# Altium schematic symbol library Seeed-OPL-Diode.SCHLIB: 94 symbols
Pins are listed as number, name and electrical type; pins without a type are passive.

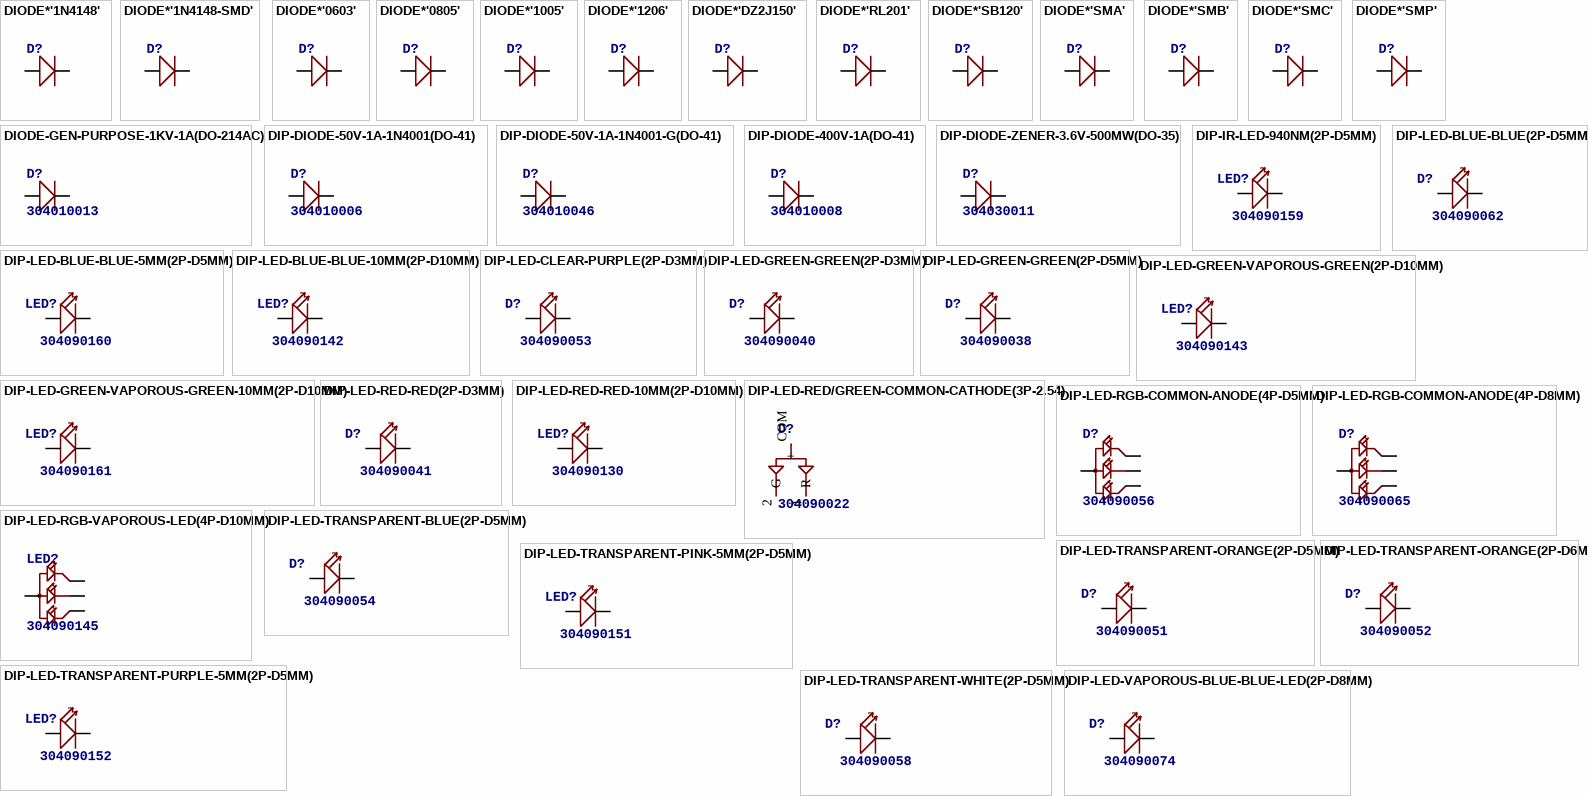
[diagram p0: symbols DIODE*'1N4148' to DIP-LED-VAPOROUS-BLUE-BLUE-LED(2P-D8MM)]

## DIODE*'1N4148'
designator D?
footprint DO-35
pins: A +, C -

## DIODE*'1N4148-SMD'
designator D?
footprint LL-34
pins: A +, C -

## DIODE*'0603'
designator D?
footprint SOD-523
pins: +, -

## DIODE*'0805'
designator D?
footprint SOD-323
pins: +, -

## DIODE*'1005'
designator D?
footprint D1005
pins: +, -

## DIODE*'1206'
designator D?
footprint SOD-123
pins: +, -

## DIODE*'DZ2J150'
designator D?
footprint SMINI2-F5-B
pins: +, -

## DIODE*'RL201'
designator D?
footprint DO-15
pins: +, -

## DIODE*'SB120'
designator D?
footprint DO-41
pins: 1 +, 2 -

## DIODE*'SMA'
designator D?
footprint DO-214AC
pins: 1 +, 2 -

## DIODE*'SMB'
designator D?
footprint DO-214AA
pins: +, -

## DIODE*'SMC'
designator D?
footprint DO-214AB
pins: 1 +, 2 -

## DIODE*'SMP'
designator D?
footprint DO-220AA
pins: +, -

## DIODE-GEN-PURPOSE-1KV-1A(DO-214AC)
designator D?, comment 304010013
MPN: 1N4007
footprint DO-214AC
pins: 1 +, 2 -

## DIP-DIODE-50V-1A-1N4001(DO-41)
designator D?, comment 304010006
MPN: 1N4001
footprint DO-41
pins: 1 +, 2 -

## DIP-DIODE-50V-1A-1N4001-G(DO-41)
designator D?, comment 304010046
MPN: 1N4001-G
footprint DO-41
pins: 1 +, 2 -

## DIP-DIODE-400V-1A(DO-41)
designator D?, comment 304010008
MPN: 1N4004
footprint DO-41
pins: 1 +, 2 -

## DIP-DIODE-ZENER-3.6V-500MW(DO-35)
designator D?, comment 304030011
MPN: 1N5227B
footprint DO-35
pins: A +, C -

## DIP-IR-LED-940NM(2P-D5MM)
designator LED?, comment 304090159
MPN: IR523B-W60W1
footprint LED2-2.54-D5.0MM
pins: +, -

## DIP-LED-BLUE-BLUE(2P-D5MM)
designator D?, comment 304090062
MPN: 504BW
footprint LED2-2.54-D5.0MM
pins: +, -

## DIP-LED-BLUE-BLUE-5MM(2P-D5MM)
designator LED?, comment 304090160
MPN: BH504DC
footprint LED2-2.54-D5.0MM
pins: +, -

## DIP-LED-BLUE-BLUE-10MM(2P-D10MM)
designator LED?, comment 304090142
MPN: BH1004DC
footprint LED2-2.54-D10MM
pins: +, -

## DIP-LED-CLEAR-PURPLE(2P-D3MM)
designator D?, comment 304090053
MPN: 30SVC4A
footprint LED2-2.54-D3.0MM
pins: A +, K -

## DIP-LED-GREEN-GREEN(2P-D3MM)
designator D?, comment 304090040
MPN: CX-G302DC
footprint LED2-2.54-D3.0MM
pins: A +, K -

## DIP-LED-GREEN-GREEN(2P-D5MM)
designator D?, comment 304090038
MPN: G502DC
footprint LED2-2.54-D5.0MM
pins: +, -

## DIP-LED-GREEN-VAPOROUS-GREEN(2P-D10MM)
designator LED?, comment 304090143
MPN: G1004DCMM
footprint LED2-2.54-D10MM
pins: +, -

## DIP-LED-GREEN-VAPOROUS-GREEN-10MM(2P-D10MM)
designator LED?, comment 304090161
MPN: G1004DC
footprint LED2-2.54-D10MM
pins: +, -

## DIP-LED-RED-RED(2P-D3MM)
designator D?, comment 304090041
MPN: SR302DC
footprint LED2-2.54-D3.0MM
pins: A +, K -

## DIP-LED-RED-RED-10MM(2P-D10MM)
designator LED?, comment 304090130
MPN: SR1004DC
footprint LED2-2.54-D10MM
pins: +, -

## DIP-LED-RED/GREEN-COMMON-CATHODE(3P-2.54)
designator D?, comment 304090022
MPN: RG309WK-A
footprint LED3-2.54-D3.0MM
pins: 1 R, 2 G, COM +

## DIP-LED-RGB-COMMON-ANODE(4P-D5MM)
designator D?, comment 304090056
MPN: FZR50RGB00T-C
footprint LED4-1.3-D5.0MM
pins: B, C +, G, R

## DIP-LED-RGB-COMMON-ANODE(4P-D8MM)
designator D?, comment 304090065
MPN: CZXR-80RGB03-A
footprint LED4-2.0-D8.0MM
pins: 1 R, 2 +, 3 G, 4 B

## DIP-LED-RGB-VAPOROUS-LED(4P-D10MM)
designator LED?, comment 304090145
MPN: YJ1003RGB-30B
footprint LED4-1.3-D10MM
pins: B, C +, G, R

## DIP-LED-TRANSPARENT-BLUE(2P-D5MM)
designator D?, comment 304090054
MPN: 504BC
footprint LED2-2.54-D5.0MM
pins: +, -

## DIP-LED-TRANSPARENT-ORANGE(2P-D5MM)
designator D?, comment 304090051
MPN: UO504WC
footprint LED2-2.54-D5.0MM
pins: +, -

## DIP-LED-TRANSPARENT-ORANGE(2P-D6MM)
designator D?, comment 304090052
MPN: 503UOC
footprint LED2-2.54-6MM
pins: +, -

## DIP-LED-TRANSPARENT-PINK-5MM(2P-D5MM)
designator LED?, comment 304090151
MPN: 504PIC
footprint LED2-2.54-D5.0MM
pins: +, -

## DIP-LED-TRANSPARENT-PURPLE-5MM(2P-D5MM)
designator LED?, comment 304090152
MPN: 504PUC
footprint LED2-2.54-D5.0MM
pins: +, -

## DIP-LED-TRANSPARENT-WHITE(2P-D5MM)
designator D?, comment 304090058
MPN: 504WC
footprint LED2-2.54-D5.0MM
pins: +, -

## DIP-LED-VAPOROUS-BLUE-BLUE-LED(2P-D8MM)
designator D?, comment 304090074
MPN: BH8004DC
footprint LED2-2.54-D8.0MM
pins: +, -

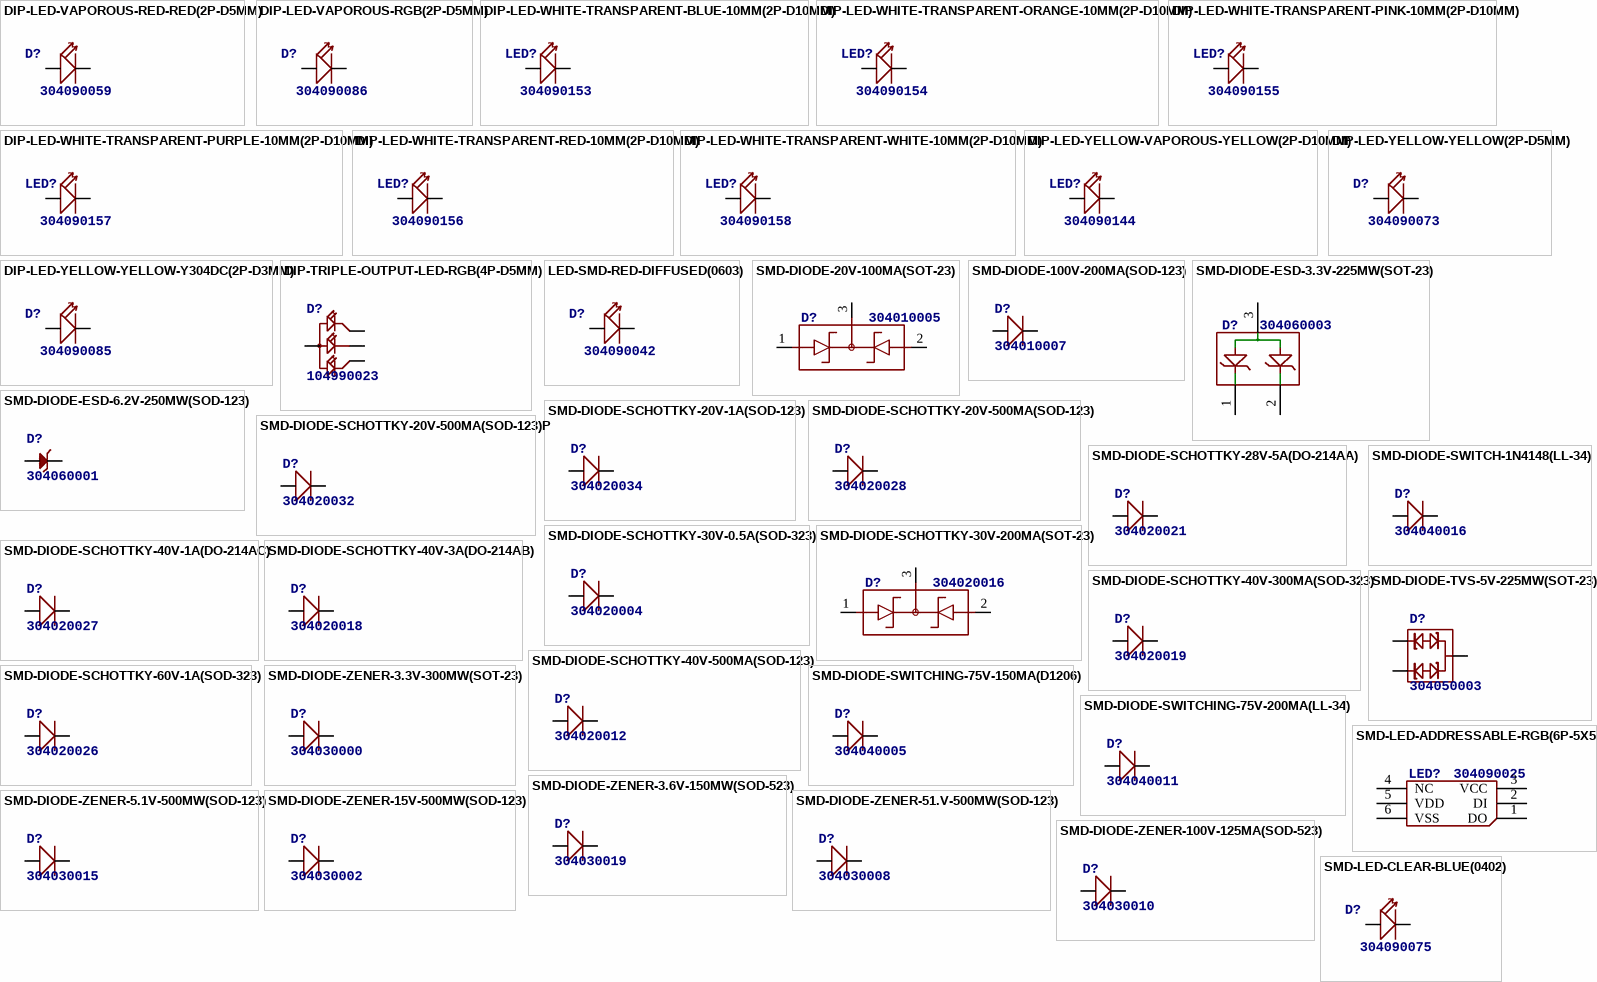
[diagram p1: symbols DIP-LED-VAPOROUS-RED-RED(2P-D5MM) to SMD-LED-CLEAR-BLUE(0402)]

## DIP-LED-VAPOROUS-RED-RED(2P-D5MM)
designator D?, comment 304090059
MPN: UR502DC
footprint LED2-2.54-D5.0MM
pins: ?1 +, ?2 -

## DIP-LED-VAPOROUS-RGB(2P-D5MM)
designator D?, comment 304090086
MPN: 504RGBW-K
footprint LED2-2.54-D5.0MM
pins: +, -

## DIP-LED-WHITE-TRANSPARENT-BLUE-10MM(2P-D10MM)
designator LED?, comment 304090153
MPN: 1004BW
footprint LED2-2.54-D10MM
pins: +, -

## DIP-LED-WHITE-TRANSPARENT-ORANGE-10MM(2P-D10MM)
designator LED?, comment 304090154
MPN: 1004OUW
footprint LED2-2.54-D10MM
pins: +, -

## DIP-LED-WHITE-TRANSPARENT-PINK-10MM(2P-D10MM)
designator LED?, comment 304090155
MPN: 1004PIW
footprint LED2-2.54-D10MM
pins: +, -

## DIP-LED-WHITE-TRANSPARENT-PURPLE-10MM(2P-D10MM)
designator LED?, comment 304090157
MPN: 1004PUW
footprint LED2-2.54-D10MM
pins: +, -

## DIP-LED-WHITE-TRANSPARENT-RED-10MM(2P-D10MM)
designator LED?, comment 304090156
MPN: 1004RW
footprint LED2-2.54-D10MM
pins: +, -

## DIP-LED-WHITE-TRANSPARENT-WHITE-10MM(2P-D10MM)
designator LED?, comment 304090158
MPN: 1004WW
footprint LED2-2.54-D10MM
pins: +, -

## DIP-LED-YELLOW-VAPOROUS-YELLOW(2P-D10MM)
designator LED?, comment 304090144
MPN: Y1004DC
footprint LED2-2.54-D10MM
pins: +, -

## DIP-LED-YELLOW-YELLOW(2P-D5MM)
designator D?, comment 304090073
MPN: Y502DC
footprint LED2-2.54-D5.0MM
pins: ?1 +, ?2 -

## DIP-LED-YELLOW-YELLOW-Y304DC(2P-D3MM)
designator D?, comment 304090085
MPN: Y304DC
footprint LED2-2.54-D3.0MM
pins: A +, K -

## DIP-TRIPLE-OUTPUT-LED-RGB(4P-D5MM)
designator D?, comment 104990023
footprint LED4-1.3-D5.0MM
pins: B, C +, G, R

## LED-SMD-RED-DIFFUSED(0603)
designator D?, comment 304090042
MPN: 19-217-R6C-AL1M2VY-3T
footprint LED-0603
pins: +, -

## SMD-DIODE-20V-100MA(SOT-23)
designator D?, comment 304010005
MPN: SMP1330-005LF
footprint SOT-23
pins: 1, 2, 3

## SMD-DIODE-100V-200MA(SOD-123)
designator D?, comment 304010007
MPN: MMSD4148
footprint SOD-123
pins: +, -

## SMD-DIODE-ESD-3.3V-225MW(SOT-23)
designator D?, comment 304060003
MPN: CESD3V3AP
footprint SOT-23
pins: 1, 2, 3

## SMD-DIODE-ESD-6.2V-250MW(SOD-123)
designator D?, comment 304060001
MPN: CESD5V0D1
footprint SOD-123
pins: + 1, - 2

## SMD-DIODE-SCHOTTKY-20V-1A(SOD-123)
designator D?, comment 304020034
MPN: B5819W
footprint SOD-123
pins: +, -

## SMD-DIODE-SCHOTTKY-20V-500MA(SOD-123)
designator D?, comment 304020028
MPN: MBR0520LT1G
footprint SOD-123
pins: +, -

## SMD-DIODE-SCHOTTKY-20V-500MA(SOD-123)P
designator D?, comment 304020032
MPN: SS0520-7-F
footprint SOD-123
pins: +, -

## SMD-DIODE-SCHOTTKY-28V-5A(DO-214AA)
designator D?, comment 304020021
MPN: SS54B
footprint DO-214AA
pins: +, -

## SMD-DIODE-SCHOTTKY-30V-0.5A(SOD-323)
designator D?, comment 304020004
MPN: LRB551V-30T1G
footprint SOD-323
pins: +, -

## SMD-DIODE-SCHOTTKY-30V-200MA(SOT-23)
designator D?, comment 304020016
MPN: BAT54C-215
footprint SOT-23
pins: 1, 2, 3

## SMD-DIODE-SCHOTTKY-40V-1A(DO-214AC)
designator D?, comment 304020027
MPN: 1N5819
footprint DO-214AC
pins: 1 +, 2 -

## SMD-DIODE-SCHOTTKY-40V-3A(DO-214AB)
designator D?, comment 304020018
MPN: SS34-E3/57T
footprint DO-214AB
pins: 1 +, 2 -

## SMD-DIODE-SCHOTTKY-40V-300MA(SOD-323)
designator D?, comment 304020019
MPN: BAT54JFILM
footprint SOD-323
pins: +, -

## SMD-DIODE-SCHOTTKY-40V-500MA(SOD-123)
designator D?, comment 304020012
MPN: B0540W
footprint SOD-123
pins: +, -

## SMD-DIODE-SCHOTTKY-60V-1A(SOD-323)
designator D?, comment 304020026
MPN: PMEG6010CEJ,115
footprint SOD-323
pins: +, -

## SMD-DIODE-SWITCH-1N4148(LL-34)
designator D?, comment 304040016
MPN: 1N4148
footprint LL-34
pins: A +, C -

## SMD-DIODE-SWITCHING-75V-150MA(D1206)
designator D?, comment 304040005
MPN: CD1206-S01575
footprint LED-1206
pins: +, -

## SMD-DIODE-SWITCHING-75V-200MA(LL-34)
designator D?, comment 304040011
MPN: LL4148ST
footprint LL-34
pins: A +, C -

## SMD-DIODE-TVS-5V-225MW(SOT-23)
designator D?, comment 304050003
MPN: CESD5V0AP
footprint SOT-23
pins: 1 (power), 2 (power), 3

## SMD-DIODE-ZENER-3.3V-300MW(SOT-23)
designator D?, comment 304030000
MPN: BZX84C3V3-7-F
footprint SOT-23
pins: 1 +, 3 -

## SMD-DIODE-ZENER-3.6V-150MW(SOD-523)
designator D?, comment 304030019
MPN: BZX584C3V6
footprint SOD-523
pins: +, -

## SMD-DIODE-ZENER-5.1V-500MW(SOD-123)
designator D?, comment 304030015
MPN: MMSZ4689-E3-08
footprint SOD-123
pins: ?1 +, ?2 -

## SMD-DIODE-ZENER-15V-500MW(SOD-123)
designator D?, comment 304030002
MPN: MMSZ4702T1G
footprint SOD-123
pins: +, -

## SMD-DIODE-ZENER-51.V-500MW(SOD-123)
designator D?, comment 304030008
MPN: MMSZ4689-V-GS08
footprint SOD-123
pins: +, -

## SMD-DIODE-ZENER-100V-125MA(SOD-523)
designator D?, comment 304030010
MPN: 1N4448WT
footprint SOD-523
pins: +, -

## SMD-LED-ADDRESSABLE-RGB(6P-5X5MM)
designator LED?, comment 304090025
MPN: WS2812
footprint LED6-SMD-5050
pins: 1 DO, 2 DI, 3 VCC, 4 NC, 5 VDD, 6 VSS

## SMD-LED-CLEAR-BLUE(0402)
designator D?, comment 304090075
MPN: BL-HB337A-AV-TRB
footprint LED-0402
pins: +, -

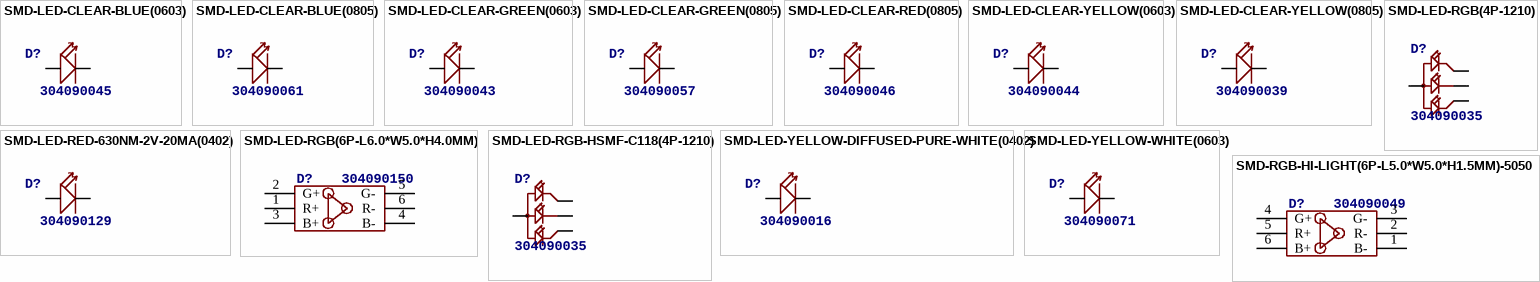
[diagram p2: symbols SMD-LED-CLEAR-BLUE(0603) to SMD-RGB-HI-LIGHT(6P-L5.0*W5.0*H1.5MM)-5050]

## SMD-LED-CLEAR-BLUE(0603)
designator D?, comment 304090045
MPN: 19-217-BHC-ZL1M2RY-3T
footprint LED-0603
pins: +, -

## SMD-LED-CLEAR-BLUE(0805)
designator D?, comment 304090061
MPN: EL-17-215/BHC-AN1P2/3T
footprint LED-0805
pins: +, -

## SMD-LED-CLEAR-GREEN(0603)
designator D?, comment 304090043
MPN: 19-217-G7C-AN1P2-3T
footprint LED-0603
pins: +, -

## SMD-LED-CLEAR-GREEN(0805)
designator D?, comment 304090057
MPN: 17-215SYGC/S530-E2/TR8
footprint LED-0805
pins: +, -

## SMD-LED-CLEAR-RED(0805)
designator D?, comment 304090046
MPN: 17-215SURC/S530-A2/TR8
footprint LED-0805
pins: +, -

## SMD-LED-CLEAR-YELLOW(0603)
designator D?, comment 304090044
MPN: 19-217-Y5C-AM1N1VY-3T
footprint LED-0603
pins: +, -

## SMD-LED-CLEAR-YELLOW(0805)
designator D?, comment 304090039
MPN: 17-215UYC/S530-A3/TR8
footprint LED-0805
pins: +, -

## SMD-LED-RED-630NM-2V-20MA(0402)
designator D?, comment 304090129
MPN: SML-P12VTT86R
footprint LED-0402
pins: +, -

## SMD-LED-RGB(4P-1210)
designator D?, comment 304090035
MPN: HSMF-C118
footprint LED4-SMD-1210
pins: 1 +, 2 R, 3 G, 4 B

## SMD-LED-RGB(6P-L6.0*W5.0*H4.0MM)
designator D?, comment 304090150
MPN: CLP6C-FKB-CM1Q1H1BB7R3R3
footprint LED6-SMD-5060
pins: 1 R+, 2 G+, 3 B+, 4 B-, 5 G-, 6 R-

## SMD-LED-RGB-HSMF-C118(4P-1210)
designator D?, comment 304090035
MPN: HSMF-C118
footprint LED4-SMD-3.0X2.54MM
pins: 1 +, 2 R, 3 G, 4 B

## SMD-LED-YELLOW-DIFFUSED-PURE-WHITE(0402)
designator D?, comment 304090016
MPN: 16-219A/T2D-AR2T1QY/3T
footprint LED-0402
pins: +, -

## SMD-LED-YELLOW-WHITE(0603)
designator D?, comment 304090071
MPN: ADL-0603W
footprint LED-0603
pins: +, -

## SMD-RGB-HI-LIGHT(6P-L5.0*W5.0*H1.5MM)-5050
designator D?, comment 304090049
MPN: 5050RGB
footprint LED6-SMD-5050
pins: 1 B-, 2 R-, 3 G-, 4 G+, 5 R+, 6 B+